# EAGLE library part DUAL-RJ45-8-SMD-MOLEX (library seanvoisen)
Dual RJ45 8 A dual port RJ45 8-pin connector, surface mount, Molex Part No. 44193-0003
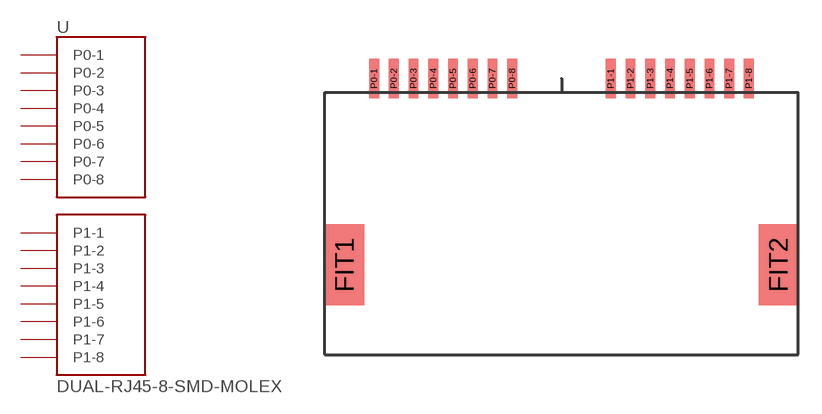
[diagram p0: symbol with the pads of DUAL-RJ45-8-SMT; footprint DUAL-RJ45-8-SMT]

Designator prefix -

## DUAL-RJ45-8-SMD-MOLEX  [DUAL-RJ45-8-SMT]
P0-1  P0-1
P0-2  P0-2
P0-3  P0-3
P0-4  P0-4
P0-5  P0-5
P0-6  P0-6
P0-7  P0-7
P0-8  P0-8
P1-1  P1-1
P1-2  P1-2
P1-3  P1-3
P1-4  P1-4
P1-5  P1-5
P1-6  P1-6
P1-7  P1-7
P1-8  P1-8

## Footprint DUAL-RJ45-8-SMT (pad centres in mm)
Dual port RJ45-8 surface mount (SMT) to spec for Molex part number 0441930003
smd 2.54 x 5.207: FIT1 1.27,5.779; FIT2 29.21,5.779
smd 0.635 x 2.54: P0-1 3.175,17.78; P0-2 4.445,17.78; P0-3 5.715,17.78; P0-4 6.985,17.78; P0-5 8.255,17.78; P0-6 9.525,17.78; P0-7 10.795,17.78; P0-8 12.065,17.78; P1-1 18.415,17.78; P1-2 19.685,17.78; P1-3 20.955,17.78; P1-4 22.225,17.78; P1-5 23.495,17.78; P1-6 24.765,17.78; P1-7 26.035,17.78; P1-8 27.305,17.78